# Altium schematic symbol library SCH - INTERFACE - CAN - B82793C0513N201.SCHLIB: 1 symbol
Pins are listed as number, name and electrical type; pins without a type are passive.

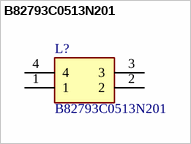
[diagram p0: symbol B82793C0513N201]

## B82793C0513N201
designator L?
Filter
pins: 1, 2, 3, 4